# Altium integrated library EE311_Example_Boost.IntLib: 18 symbols
Pins are listed as number, name and electrical type; pins without a type are passive.

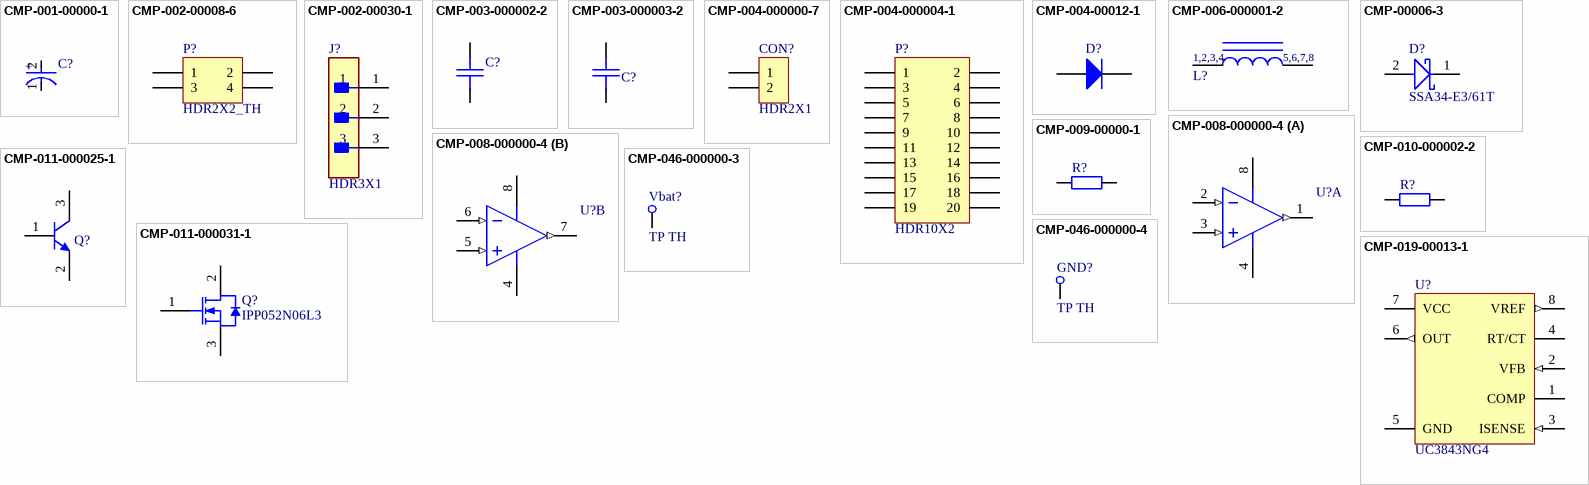
[diagram p0: symbols CMP-001-00000-1 to CMP-046-000000-4]

## CMP-001-00000-1
designator C?, comment EEE-FK1K330P  (value not drawn)
Aluminum Electrolytic Capacitor, Polarized, Aluminum (wet), 80V, 20% +Tol, 20% -Tol, 33uF, Surface Mount, 3333; Manufacturer: Panasonic; Capacitor Type: Aluminium; Value: 33µF; Pins: 2; Case/Package: 3333; RoHS Compliant: Yes; Height: 10.2mm; Mounting Technology: Surface Mount; Min Operating Temperature: -55°C; Dielectric Material: Aluminium; Max Operating Temperature: 105°C; Manufacturer Part Number: EEE-FK1K330P; Component Type: Capacitors
footprint FP-FKF-MFG
pins: 1 C, 2 A
text: +

## CMP-002-00008-6
designator P?, comment HDR2X2_TH
Male Header, 4-Pin, Dual row; Source: CommonSymbols_V1.SchLib; Design Item ID: HDR2X2; Component Type: Connectors
footprint HDR2X2_2P54_Male (IDC 2X2 Way 2.54 pitch)
footprint HDR2X2_Female
pins: 1, 2, 3, 4

## CMP-002-00030-1
designator J?, comment HDR3X1
22-28-4035, Board Connector, 3 Contact(s), 1 Row(s), Male, Straight, 0.1 inch Pitch, Solder Terminal, Receptacle; Manufacturer: Molex; Number Of PCB Rows: 1; Number of Contacts: 3; Mounting Technology: Board; Connector Type: BOARD CONNECTOR; RoHS Compliant: Yes; Contact Gender: Male; Min Operating Temperature: 0°C; Terminal Pitch: 2.54mm; Max Operating Temperature: 75°C; Manufacturer Part Number: 22-28-4035; Component Type: Connectors
footprint FP-22-28-4035-MFG
pins: 1, 2, 3

## CMP-003-000002-2
designator C?, comment CCAP0805  (value not drawn)
Capacitor 0805; Design Item ID: CCAP0805; Source: CommonSymbols_V1.SchLib; Component Type: Capacitors
footprint C0805
pins: 1, 2

## CMP-003-000003-2
designator C?, comment CCAP1210  (value not drawn)
Capacitor 1210; Design Item ID: CCAP1210; Source: CommonSymbols_V1.SchLib; Component Type: Capacitors
footprint C1210
pins: 1, 2

## CMP-004-000000-7
designator CON?, comment HDR2X1
Header 2X1; Design Item ID: HDR2X1; Source: CommonSymbols_V1.SchLib; Component Type: Connectors
footprint HDR2X1_5
footprint HDR2X1_2P54 (Polarised Header 2 way)
footprint HDR2X1_2P54_M
footprint 0530470210 (Molex 0530470210)
footprint HDR2X1-2P54-SMT
footprint HDR2X1-2P54-F
pins: 1, 2

## CMP-004-000004-1
designator P?, comment HDR10X2
Header, 10-Pin, Dual row; Design Item ID: HDR10X2; Source: CommonSymbols_V1.SchLib; Component Type: Connectors
footprint HDR10X2_2P54
pins: 1, 2, 3, 4, 5, 6, 7, 8, 9, 10, 11, 12, 13, 14, 15, 16, 17, 18, 19, 20

## CMP-004-00012-1
designator D?, comment 1N4148_SMT_SOD123  (value not drawn)
DIODE GEN PURP 100V 300MA SOD123; Manufacturer Part Number: 1N4148W-13-F; Manufacturer: Diodes Incorporated; Manufacturer: Diodes Inc.; Capacitance @ Vr, F: 2pF @ 0V, 1MHz; Speed: Small Signal =< 200mA (Io), Any Speed; Diode Type: Standard; Current - Average Rectified (Io): 150mA; Part Status: Active; Supplier Device Package: SOD-123; ComponentLink1Description: https://www.diodes.com/assets/Datasheets/ds30086.pdf; Pricing 1: 1=0.33, 10=0.292, 100=0.1586, 500=0.0976, 1000=0.06656 (NZD); Operating Temperature - Junction: -65°C ~ 150°C; Category: Discrete Semiconductor Products; Base Part Number: 1N4148W; RoHS: RoHS Compliant; Stock 1: 5282; Packaging: Cut Tape (CT); Pins: 2; Source: EE209_SchLib.SchLib; ComponentLink1URL: https://www.diodes.com/assets/Datasheets/ds30086.pdf; Mounting Type: Surface Mount; Case/Package: SOD-123; Component Type: Standard; Design Item ID: 1N4148_SMT_SOD123; Component Type: Diodes
footprint SOD123 (SOD-123; 2 Leads; Body 2.7 x 1.6 mm, (LxW))
pins: 1 A, 2 K

## CMP-006-000001-2
designator L?, comment Inductor EFD20  (value not drawn)
Inductor with core; Design Item ID: Inductor EFD20; Source: CommonSymbols_V1.SchLib; Component Type: Inductors
footprint EFD20
pins: 1, 2, 3, 4, 5, 6, 7, 8
text: 1,2,3,4; 5,6,7,8

## CMP-00006-3
designator D?, comment SSA34-E3/61T
Rectifier Diode, Schottky, 1 Phase, 1 Element, 3A, 40V V(RRM), Silicon, DO-214AC; Manufacturer: Vishay; Non-rep Pk Forward Current-Max: 75A; Polarity: Standard; Number of Elements: 1; Max Reverse Leakage Current: 200uA; Qualification Status: Not Qualified; Application(s): EFFICIENCY; Time @ Peak Reflow Temperature-Max (s): 40s; Forward Voltage: 490mV; Package Body Material: Plastic; Package Quantity: 1800; JEDEC-95 Code: DO-214AC; Max Reverse Voltage (DC): 40V; Length: 4.5mm; Moisture Sensitivity Level: 1; Packaging: Tape and Reel; Peak Reflow Temperature (Cel): 260°C; Terminal Finish: Tin; Technology: SCHOTTKY; Width: 2.79mm; Voltage Rating (DC): 40V; Number of Phases: 1; Reverse Voltage: 40V; Pins: 2; Peak Non-Repetitive Surge Current: 75A; Average Rectified Current: 3A; Terminal Form: C BEND; Rep Pk Reverse Voltage-Max: 40V; Diode Element Material: SILICON; Mounting Technology: Surface Mount; Max Reverse Current: 200uA; Series: -; Surface Mount: Yes; Package Shape: Rectangular; Package Style: SMALL OUTLINEMeter; Max Operating Temperature: 150°C; Max Forward Surge Current (Ifsm): 75A; RoHS Compliant: Yes; Current Rating: 3A; Lead Free: Lead Free; Forward Current: 3A; Min Operating Temperature: -65°C; Terminal Position: DUAL; Diode Type: RECTIFIER; Case/Package: SMA; Radiation Hardening: No; Max Repetitive Reverse Voltage (Vrrm): 40V; Max Output current: 3A; Output Current: 3A; Max Surge Current: 75A; JESD-30 Code: R-PDSO-C2; Height: 2.087mm; JESD-609 Code: e3; Reach SVHC Compliant: Unknown; Manufacturer Part Number: SSA34-E3/61T; Component Type: Schottky
footprint FP-95400-MFG
pins: 1 C, 2 A

## CMP-008-000000-4
designator U?, comment LT6221  (value not drawn)
IC OPAMP LT6221 DUAL SM; Manufactuer: Linear Technology; Manufacturer-PN: LT6221CS8#TRPBF; Manufacturer: Analog Devices; Manufacturer Part Number: LT6221CS8#PBF; UoA Stock#: OPA000102; Assembly Method: Surface Mount; Path: ece/ts/Lists/Stock Inventory; Item Type: Item; Supplier2: Digikey; Source: CommonSymbols_V1.SchLib; Value: LT6221; Size/Package: S8; Status: Active; Supplier1: Arrow; Design Item ID: LT6221; Supplier2-PN: LT6221CS8#PBF-ND; Category: OpAmp; Supplier1-PN: LT6221CS8#TRPBF; Component Type: Amplifiers
footprint SOIC8
part A pins: 1 OUT1 (out), 2 IN1- (in), 3 IN1+ (in), 4 GND (power), 8 VDD (power)
part B pins: 4 GND (power), 5 IN1+ (in), 6 IN1- (in), 7 OUT1 (out), 8 VDD (power)

## CMP-009-00000-1
designator R?, comment RES1210  (value not drawn)
Resistor 1210; Design Item ID: RES1206; Source: CommonSymbols_V1.SchLib; Component Type: Resistors
footprint R1210 (Chip Resistor, 2-Leads, IPC Low Density)
pins: 1, 2

## CMP-010-000002-2
designator R?, comment RES0805  (value not drawn)
Resistor 0805; Design Item ID: RES0805; Source: CommonSymbols_V1.SchLib; Component Type: Resistors
footprint R0805
pins: 1, 2

## CMP-011-000025-1
designator Q?, comment MMBT2222A  (value not drawn)
General Purpose Transistor, NPN Silicon, 3-Pin SOT-23, Pb-Free, Tape and Reel; PartNumber: MMBT2222ALT1G; Manufacturer: On Semiconductor; Manufacturer: onsemi; fT Min (MHz): 300; IC Continuous (A): 0.6; PackageVersion: Rev. AP, 11/2009; ComponentLink2Description: Datasheet; ComponentLink1Description: Manufacturer URL; Design Item ID: MMBT2222A; PackageDescription: 3-Pin Small Outline Transistor, Body 2.92 x 1.3 mm, Pitch 0.95 mm; RoHS: TRUE; ComponentLink1URL: http://www.onsemi.com/; DatasheetVersion: Rev. 10; Packing: Tape and Reel; Mounting Technology: Surface Mount; Polarity: NPN; ComponentLink2URL: http://www.onsemi.cn/pub_link/Collateral/MMBT2222LT1-D.PDF; Source: CommonSymbols_V1.SchLib; PackageReference: SOT-23-3-318-08; ComponentLink3Description: Package Specification; ComponentLink3URL: http://www.onsemi.cn/pub_link/Collateral/318-08.PDF; Manufacturer Part Number: MMBT2222ALT1G; Component Type: Transistors
footprint SOT23SM (SOT23 Medium Intensity)
pins: 1 B, 2 E, 3 C

## CMP-011-000031-1
designator Q?, comment IPP052N06L3
N-Channel OptiMOS 3 Power-Transistor, 60 V VDS, 80 A ID, -55 to 175 degC, PG-TO220-3-1, Tube, Green; Manufacturer: Infineon; PartNumber: IPP052N06L3 G; Manufacturer Part Number: IPP052N06L3GXKSA1; RDS (on) (max) (@4.5V): 8.3 mOhm; VDS (max): 60 V; QG: 37 nC; ID (max): 80 A; Ptot (max): 115 W; RthJA (max): 62 K/W; Polarity: N; RDS (on) (max): 5 mOhm; VGS(th) (min): 1.2 V; Green: TRUE; RthJC (max): 1.3 K/W; IDpuls (max): 320 A; VGS(th) (max): 2.2 V; PackageReference: PG-TO220-3-1; Mounting Technology: Through Hole; ComponentLink3Description: Package Specification; Packing: Tube; ComponentLink1Description: Manufacturer URL; PackageDescription: 3-Pin Plastic (Green) Transistor Single Outline Package, 10.03 x 8.98 mm Body, 2.54 mm Pitch; ComponentLink3URL: http://www.infineon.com/dgdl/IPP028N08N3_Rev1%5B1%5D.0.pdf?folderId=db3a304313b8b5a60113cee8763b02d7&fileId=db3a30432313ff5e0123a3c08e7326b5; Design Item ID: IPP052N06L3; DatasheetVersion: Rev. 2.4; ComponentLink2URL: http://www.infineon.com/dgdl/IPP_B052N06L3_Rev2.4.pdf?folderId=db3a304313b8b5a60113cee8763b02d7&fileId=db3a30432313ff5e0123a32d97c125b6; PackageVersion: Rev. 05, 08/2007; ComponentLink2Description: Datasheet; Rth: 1.3 K/W; Source: CommonSymbols_V1.SchLib; Halogen-free: TRUE; ComponentLink1URL: http://www.infineon.com/; Component Type: Transistors
footprint TO220VH (FM, 3-Leads, Body 10.03x8.98mm, Pitch 2.54mm)
pins: 1 GATE, 2 DRAIN, 3 SOURCE

## CMP-019-00013-1
designator U?, comment UC3843NG4
Single ended 500KHz current mode PWM controller with 8.4V/7.6V UVLO 100% duty cycle, 0C to 70C 8-PDIP 0 to 70; Manufacturer Lifecycle Status: ACTIVE; Manufacturer: Texas Instruments; Rise Time: 50ns; Topology: Boost, Buck, Buck-Boost, Flyback; Nominal Supply Voltage: 25V; Number of Outputs: 1; Frequency: 450kHz; Output Voltage: 13.5V; Max Supply Voltage: 30V; Length: 9.81mm; Duty Cycle: 100%; Pins: 8; Lifecycle Status: Production; Lead Free: Lead Free; Width: 6.35mm; Height: 5.08mm; RoHS: Compliant; Clock Frequency: 500kHz; Case/Package: PDIP; Min Operating Temperature: 0°C; Thickness: 3.9mm; Fall Time: 50ns; Switching Frequency: 500kHz; Max Duty Cycle: 100%; Max Operating Temperature: 70°C; Weight: 528.605208mg; Manufacturer Part Number: UC3843NG4; Component Type: Power Supply
footprint DIP-8 (DIP, 8-Leads, Row Spacing 7.62mm, Pitch 2.54mm, Body 9.6x6.4mm)
pins: 1 COMP, 2 VFB (in), 3 ISENSE (in), 4 RT/CT, 5 GND (power), 6 OUT (out), 7 VCC (power), 8 VREF (out)

## CMP-046-000000-3
designator Vbat?, comment TP TH
Testpoint through hole / Keystone compact / 5000 - Red / 5001 - Black / 5002 - White / 5003 - Orange / 5004 - Yellow; Source: UoAPE_Connectors and Mechanical.SchLib; Design Item ID: TP TH; Component Type: Mechanicals
footprint TP_TH_2.5mm (Keystone through hole TP)
pins: 1

## CMP-046-000000-4
designator GND?, comment TP TH
Testpoint through hole / Keystone compact / 5000 - Red / 5001 - Black / 5002 - White / 5003 - Orange / 5004 - Yellow; Design Item ID: TP TH; Source: UoAPE_Connectors and Mechanical.SchLib; Component Type: Mechanicals
footprint TP_TH_2.5mm (Keystone through hole TP)
footprint TP_TH_3mm (Keystone through hole TP)
pins: 1